# Altium schematic symbol library JST-8.SchLib: 1 symbol
Pins are listed as number, name and electrical type; pins without a type are passive.

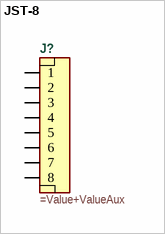
[diagram p0: symbol JST-8]

## JST-8
designator J?
=Description
pins: 1, 2, 3, 4, 5, 6, 7, 8